# Altium footprint library SIGFOX-PCB-RULER.PcbLib: 49 footprints (part 1 of 4)
Each footprint in its own frame and in the unit in brackets; x right, y up, seen from the top. Pads: shape width x height; smd on the part's side, far side on the other; paste and mask are expansions set on the pad; w line width, h text height; cw(c..) or ccw(c..) is an arc to the next point about the centre after c.
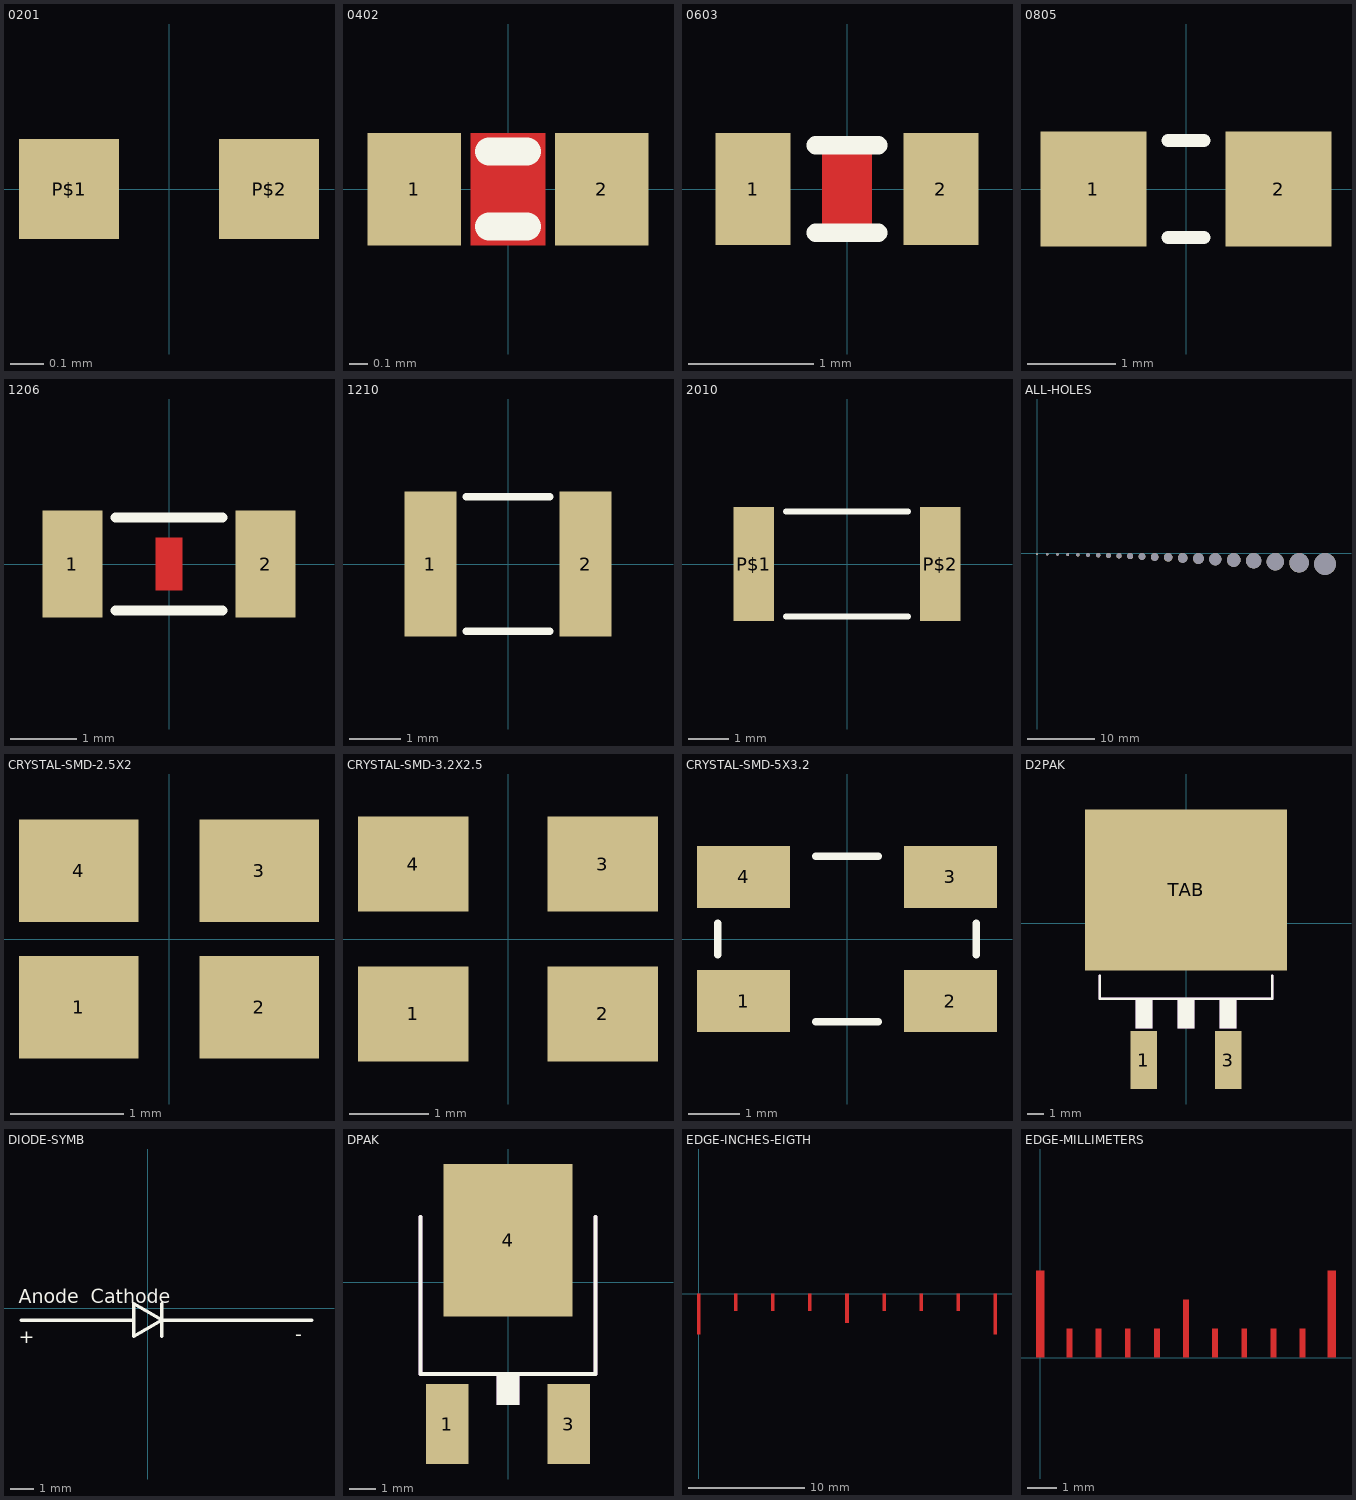
[diagram p0: the footprints below, top view; thin cyan lines are the x and y axes]

## 0201 [mm]
pads (2):
  rect 0.3x0.3 smd: P$1(-0.3,0) P$2(0.3,0)

## 0402 [mm]
pads (2):
  rect 0.5x0.6 smd: 1(-0.5,0) 2(0.5,0)
Top Layer:
  rectangle: -0.2,-0.3 0.2,0.3
Top Overlay:
  lines w0.15: -0.1,-0.2 0.1,-0.2 ; -0.1,0.2 0.1,0.2

## 0603 [mm]
pads (2):
  rect 0.6x0.9 smd: 1(-0.75,0) 2(0.75,0)
Top Layer:
  rectangle: -0.2,-0.3 0.2,0.3
Top Overlay:
  lines w0.15: -0.25,-0.35 0.25,-0.35 ; -0.25,0.35 0.25,0.35

## 0805 [mm]
pads (2):
  rect 1.2x1.3 smd: 1(-1.05,0) 2(1.05,0)
Top Overlay:
  lines w0.15: -0.2,-0.55 0.2,-0.55 ; -0.2,0.55 0.2,0.55

## 1206 [mm]
pads (2):
  rect 0.9x1.6 smd: 1(-1.45,0) 2(1.45,0)
Top Layer:
  rectangle: -0.2,-0.4 0.2,0.4
Top Overlay:
  lines w0.15: -0.8,-0.7 0.8,-0.7 ; -0.8,0.7 0.8,0.7

## 1210 [mm]
pads (2):
  rect 1x2.8 smd: 1(-1.5,0) 2(1.5,0)
Top Overlay:
  lines w0.15: -0.8,-1.3 0.8,-1.3 ; -0.8,1.3 0.8,1.3

## 2010 [mm]
pads (2):
  rect 1x2.8 smd: P$1(-2.3,0) P$2(2.3,0)
Top Overlay:
  lines w0.15: -1.5,-1.3 1.5,-1.3 ; -1.5,1.3 1.5,1.3

## ALL-HOLES [mm]
pads (21):
  round 0.321 hole 0.321 unplated: ""(0,-0.161)
  round 0.361 hole 0.361 unplated: ""(1.524,-0.18)
  round 0.405 hole 0.405 unplated: ""(3.048,-0.202)
  round 0.455 hole 0.455 unplated: ""(4.572,-0.228)
  round 0.511 hole 0.511 unplated: ""(6.096,-0.255)
  round 0.573 hole 0.573 unplated: ""(7.62,-0.287)
  round 0.644 hole 0.644 unplated: ""(9.144,-0.322)
  round 0.723 hole 0.723 unplated: ""(10.668,-0.361)
  round 0.812 hole 0.812 unplated: ""(12.235,-0.406)
  round 0.912 hole 0.912 unplated: ""(13.898,-0.456)
  round 1.02 hole 1.02 unplated: ""(15.663,-0.51)
  round 1.15 hole 1.15 unplated: ""(17.549,-0.575)
  round 1.29 hole 1.29 unplated: ""(19.568,-0.645)
  round 1.45 hole 1.45 unplated: ""(21.739,-0.725)
  round 1.63 hole 1.63 unplated: ""(24.078,-0.815)
  round 1.83 hole 1.83 unplated: ""(26.609,-0.915)
  round 2.05 hole 2.05 unplated: ""(29.348,-1.025)
  round 2.3 hole 2.3 unplated: ""(32.324,-1.15)
  round 2.59 hole 2.59 unplated: ""(35.568,-1.295)
  round 2.91 hole 2.91 unplated: ""(39.119,-1.455)
  round 3.26 hole 3.26 unplated: ""(43.003,-1.63)

## CRYSTAL-SMD-2.5X2 [mm]
pads (4):
  rect 1.05x0.9 smd: 1(-0.795,-0.6) 2(0.795,-0.6) 3(0.795,0.6) 4(-0.795,0.6)

## CRYSTAL-SMD-3.2X2.5 [mm]
pads (4):
  rect 1.4x1.2 smd: 1(-1.2,-0.95) 2(1.2,-0.95) 3(1.2,0.95) 4(-1.2,0.95)

## CRYSTAL-SMD-5X3.2 [mm]
pads (4):
  rect 1.8x1.2 smd: 1(-2,-1.2) 2(2,-1.2) 3(2,1.2) 4(-2,1.2)
Top Overlay:
  lines w0.15: -2.5,-0.3 -2.5,0.3 ; -0.6,-1.6 0.6,-1.6 ; -0.6,1.6 0.6,1.6 ; 2.5,-0.3 2.5,0.3

## D2PAK [mm]
pads (3):
  rect 1.6x3.5 smd: 1(-2.54,-8.275) 3(2.54,-8.275)
  rect 12.2x9.75 smd: TAB(0,2)
Top Overlay:
  rectangle: 2.015,-6.375 3.065,-4.5
  rectangle: -3.065,-6.375 -2.015,-4.5
  rectangle: -0.525,-6.375 0.525,-4.5
  lines w0.15: -5.2,-3.175 -5.2,-4.575 5.2,-4.575 5.2,-3.175
Mechanical 13:
  rectangle: -0.525,-6.375 0.525,-4.5
  rectangle: -3.065,-6.375 -2.015,-4.5
  rectangle: 2.015,-6.375 3.065,-4.5
  rectangle: -3.065,-9.775 -2.015,-6.575
  rectangle: 2.015,-9.775 3.065,-6.575
  lines w0.15: -5.2,-3.175 -5.2,-4.575 5.2,-4.575 5.2,-3.175

## DIODE-SYMB [mm]
Top Overlay:
  lines w0.15: -5.4,-0.5 -0.6,-0.5 ; 0.6,-1.2 0.6,-0.5 ; 0.6,0.2 0.6,-0.5 ; 7,-0.5 0.6,-0.5 ; -0.6,-0.5 -0.6,0.2 0.6,-0.5 ; -0.6,-0.5 -0.6,-1.2 0.6,-0.5
  text "Anode  Cathode" at -5.5,0 h1.02
  text "+" at -5.5,-1.7 h1.02
  text "-" at 6.3,-1.6 h1.02

## DPAK [mm]
pads (3):
  rect 1.6x3 smd: 1(-2.28,-5.31) 3(2.28,-5.31)
  rect 4.826x5.715 smd: 4(0,1.588)
Top Overlay:
  rectangle: -0.432,-4.593 0.432,-3.5
  lines w0.15: -3.277,2.465 -3.277,-3.429 3.277,-3.429 3.277,2.465
Mechanical 13:
  rectangle: 1.854,-6.726 2.718,-3.831
  rectangle: -2.718,-6.726 -1.854,-3.831
  rectangle: -0.432,-4.593 0.432,-3.5
  rectangle: -0.432,-4.593 0.432,-3.5
  rectangle: -0.432,-4.593 0.432,-3.5
  lines w0.15: -3.277,-3.429 3.277,-3.429 ; -3.277,-3.429 -3.277,2.465 ; -3.277,-3.429 3.277,-3.429 ; -3.277,-3.429 -3.277,2.465 ; -3.277,-3.429 -3.277,2.465 ; -3.277,-3.429 3.277,-3.429 ; 3.277,-3.429 3.277,2.465 ; 3.277,-3.429 3.277,2.465 ; 3.277,-3.429 3.277,2.465

## EDGE-INCHES-EIGTH [mm]
Top Layer:
  rectangle: -0.15,-3.5 0.15,0
  rectangle: 3.025,-1.5 3.325,0
  rectangle: 6.2,-1.5 6.5,0
  rectangle: 9.375,-1.5 9.675,0
  rectangle: 12.55,-2.5 12.85,0
  rectangle: 15.725,-1.5 16.025,0
  rectangle: 18.9,-1.5 19.2,0
  rectangle: 22.075,-1.5 22.375,0
  rectangle: 25.25,-3.5 25.55,0
Top Solder:
  rectangle: -0.15,-3.5 0.15,0
  rectangle: 3.025,-1.5 3.325,0
  rectangle: 6.2,-1.5 6.5,0
  rectangle: 9.375,-1.5 9.675,0
  rectangle: 12.55,-2.5 12.85,0
  rectangle: 15.725,-1.5 16.025,0
  rectangle: 18.9,-1.5 19.2,0
  rectangle: 22.075,-1.5 22.375,0
  rectangle: 25.25,-3.5 25.55,0

## EDGE-MILLIMETERS [mm]
Top Layer:
  rectangle: 9.85,0 10.15,3
  rectangle: 8.9,0 9.1,1
  rectangle: 7.9,0 8.1,1
  rectangle: 6.9,0 7.1,1
  rectangle: 5.9,0 6.1,1
  rectangle: 3.9,0 4.1,1
  rectangle: 4.9,0 5.1,2
  rectangle: 2.9,0 3.1,1
  rectangle: 1.9,0 2.1,1
  rectangle: 0.9,0 1.1,1
  rectangle: -0.15,0 0.15,3
Top Solder:
  rectangle: -0.15,0 0.15,3
  rectangle: 0.9,0 1.1,1
  rectangle: 1.9,0 2.1,1
  rectangle: 2.9,0 3.1,1
  rectangle: 4.9,0 5.1,2
  rectangle: 3.9,0 4.1,1
  rectangle: 5.9,0 6.1,1
  rectangle: 6.9,0 7.1,1
  rectangle: 7.9,0 8.1,1
  rectangle: 8.9,0 9.1,1
  rectangle: 9.85,0 10.15,3